# Altium footprint library TundraHaptics.PcbLib: 7 footprints
Each footprint in its own frame and in the unit in brackets; x right, y up, seen from the top. Pads: shape width x height; smd on the part's side, far side on the other; paste and mask are expansions set on the pad; w line width, h text height; cw(c..) or ccw(c..) is an arc to the next point about the centre after c.
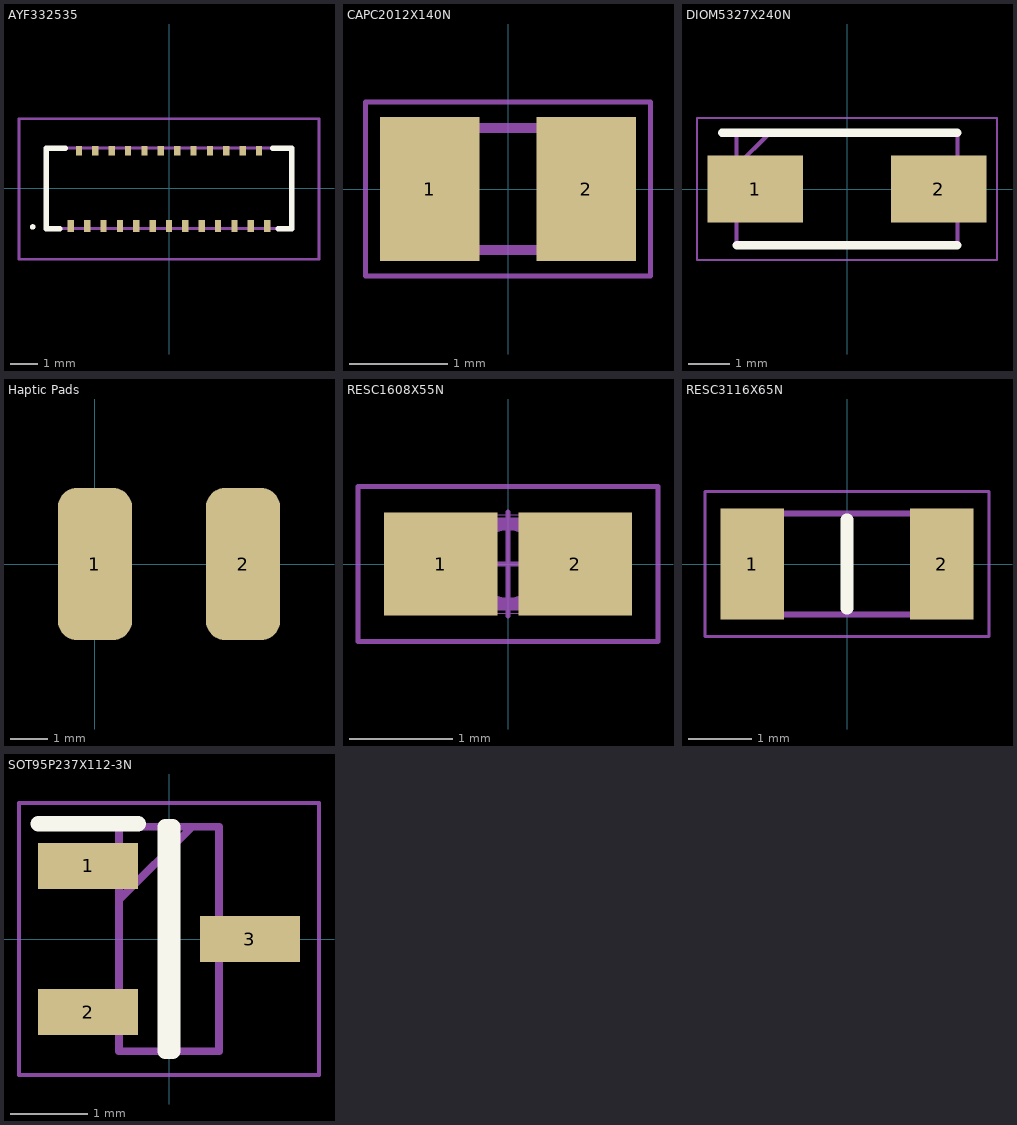
[diagram p0: the footprints below, top view; thin cyan lines are the x and y axes]

## AYF332535 [mm]
pads (25):
  rect 0.23x0.44 smd: 1(-3.6,-1.38) 3(-3,-1.38) 5(-2.4,-1.38) 7(-1.8,-1.38) 9(-1.2,-1.38) 11(-0.6,-1.38) 13(0,-1.38) 15(0.6,-1.38) 17(1.2,-1.38) 19(1.8,-1.38) 21(2.4,-1.38) 23(3,-1.38) 25(3.6,-1.38)
  rect 0.23x0.34 smd: 2(-3.3,1.38) 4(-2.7,1.38) 6(-2.1,1.38) 8(-1.5,1.38) 10(-0.9,1.38) 12(-0.3,1.38) 14(0.3,1.38) 16(0.9,1.38) 18(1.5,1.38) 20(2.1,1.38) 22(2.7,1.38) 24(3.3,1.38)
Top Overlay:
  lines w0.1: -4.997,-1.465 cw(c-4.997,-1.415) -4.997,-1.365 cw(c-4.997,-1.415) -4.997,-1.465
  lines w0.2: -4,-1.475 -4.5,-1.475 -4.5,1.475 -3.8,1.475 ; 3.8,1.475 4.5,1.475 4.5,-1.475 4,-1.475
Mechanical 13:
  lines w0.1: -4.5,-1.475 4.5,-1.475 4.5,1.475 -4.5,1.475 -4.5,-1.475
Mechanical 15:
  lines w0.1: -5.5,-2.6 5.5,-2.6 5.5,2.55 -5.5,2.55 -5.5,-2.6
3D body "AYF332535.stp": height 1.1, standoff 0, extent -4.5,-1.577 4.5,1.527

## CAPC2012X140N [mm]
pads (2):
  rect 1.02x1.47 smd: 1(-0.8,0) 2(0.8,0)
Mechanical 13:
  lines w0.1: -1,-0.625 -1,0.625 1,0.625 1,-0.625 -1,-0.625
Mechanical 15:
  lines w0.05: -1.46,-0.89 -1.46,0.89 1.46,0.89 1.46,-0.89 -1.46,-0.89
3D body "C0805C106K8PACTU-2.5.stp": height 1.4, standoff 0, extent -1.1,-0.73 1.1,0.72

## DIOM5327X240N [mm]
pads (2):
  rect 2.3x1.6 smd: 1(-2.2,0) 2(2.2,0)
Top Overlay:
  lines w0.2: -3,1.35 2.65,1.35 ; -2.65,-1.35 2.65,-1.35
Mechanical 13:
  lines w0.1: -2.65,0.55 -1.85,1.35 ; -2.65,-1.35 2.65,-1.35 2.65,1.35 -2.65,1.35 -2.65,-1.35
Mechanical 15:
  lines w0.05: -3.6,-1.7 3.6,-1.7 3.6,1.7 -3.6,1.7 -3.6,-1.7
3D body "M4.stp": height 2.4, standoff 0, extent -2.65,-1.35 2.65,1.35

## Haptic Pads [mm]
pads (2):
  rrect50% 2x4.1 smd: 1(0,0) 2(4,0)

## RESC1608X55N [mm]
pads (2):
  rect 1.1x1 smd: 1(-0.65,0) 2(0.65,0)
Mechanical 13:
  lines w0.1: -0.8,-0.4 -0.8,0.4 0.8,0.4 0.8,-0.4 -0.8,-0.4
Mechanical 15:
  circle w0.05: c0,0 r0.35
  lines w0.001: -0.85,-0.475 -0.85,0.475 0.85,0.475 0.85,-0.475 -0.85,-0.475
  lines w0.05: -0.5,0 0.5,0 ; 0,-0.5 0,0.5 ; -1.45,-0.75 -1.45,0.75 1.45,0.75 1.45,-0.75 -1.45,-0.75
3D body "RC0603FR-0710KL.stp": height 0.55, standoff 0, extent -0.8,-0.4 0.8,0.4

## RESC3116X65N [mm]
pads (2):
  rect 1x1.75 smd: 1(-1.5,0) 2(1.5,0)
Top Overlay:
  lines w0.2: 0,-0.7 0,0.7
Mechanical 13:
  lines w0.1: -1.55,-0.8 -1.55,0.8 1.55,0.8 1.55,-0.8 -1.55,-0.8
Mechanical 15:
  lines w0.05: -2.25,-1.15 -2.25,1.15 2.25,1.15 2.25,-1.15 -2.25,-1.15
3D body "RC1206FR-0751RL.stp": height 0.65, standoff 0, extent -1.55,-0.8 1.55,0.8

## SOT95P237X112-3N [mm]
pads (3):
  rect 1.3x0.6 smd: 1(-1.05,0.95) 2(-1.05,-0.95) 3(1.05,0)
Top Overlay:
  lines w0.2: -1.7,1.5 -0.4,1.5 ; -0.05,-1.46 -0.05,1.46 0.05,1.46 0.05,-1.46 -0.05,-1.46
Mechanical 13:
  lines w0.1: -0.65,0.51 0.3,1.46 ; -0.65,-1.46 -0.65,1.46 0.65,1.46 0.65,-1.46 -0.65,-1.46
Mechanical 15:
  lines w0.05: -1.95,-1.77 -1.95,1.77 1.95,1.77 1.95,-1.77 -1.95,-1.77
3D body "SI2302CDS-T1-E3.stp": height 1.12, standoff 0, extent -1.185,-1.46 1.185,1.46